# Altium footprint library PCB - DIODES - TO 277A.PcbLib: 3 footprints
Each footprint in its own frame and in the unit in brackets; x right, y up, seen from the top. Pads: shape width x height; smd on the part's side, far side on the other; paste and mask are expansions set on the pad; w line width, h text height; cw(c..) or ccw(c..) is an arc to the next point about the centre after c.
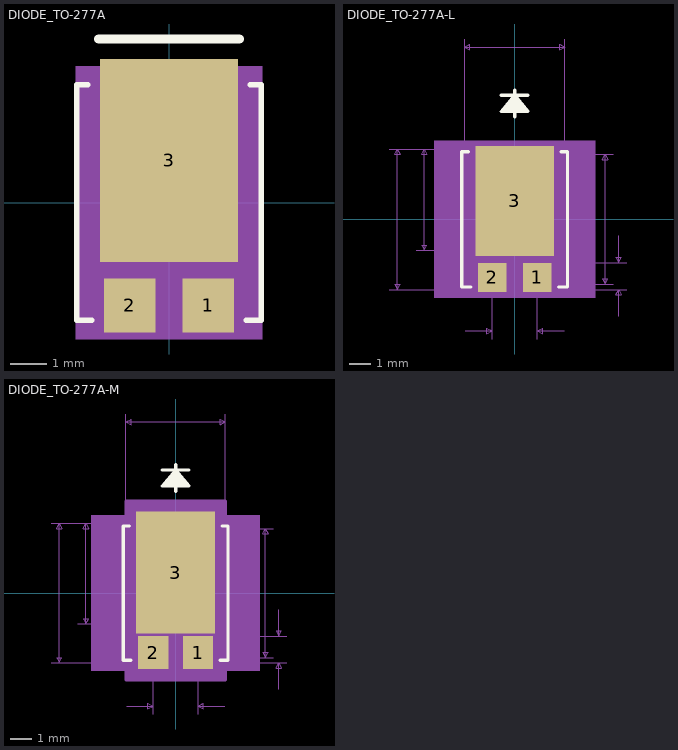
[diagram p0: the footprints below, top view; thin cyan lines are the x and y axes]

## DIODE_TO-277A [mil]
pads (3):
  rect 55x58 smd: 1(42,-110) 2(-42,-110)
  rect 148x217 smd: 3(0,45)
Top Overlay:
  lines w6: -87.1,126 -98.5,126 -98.5,-126 -82.6,-126 ; 82.6,-126 98.5,-126 98.5,126 87.1,126
  lines w10: -75,175 75,175
Mechanical 5:
  region: 100,-146 -100,-146 -100,146 100,146
Mechanical 13:
  lines w1: -93.5,-121 93.5,-121 93.5,121 -93.5,121 -93.5,-121
3D body "SS8P3L.STEP": height 41.34, standoff 0, extent -86.65,-122.87 94.45,133.03
3D body: height 10, standoff 0, extent 0,0 10,10

## DIODE_TO-277A-L [mil]
pads (3):
  rect 53x54 smd paste+0 mask+0: 1(42,-108) 2(-42,-108)
  rect 146x205 smd paste+0 mask+0: 3(0,34.5)
Top Overlay:
  lines w6: -86.1,126 -98.5,126 -98.5,-126 -81.6,-126 ; -25,231 25,231 ; -20,201 0,231 ; -15,201 0,231 ; -10,201 0,231 ; -5,201 0,231 ; 0,191 0,241 ; 5,201 0,231 ; 10,201 0,231 ; 15,201 0,231 ; 20,201 0,231 ; 81.6,-126 98.5,-126 98.5,126 86.1,126 ; 0,231 -25,201 25,201 0,231
Mechanical 5:
  region: 150,-146 -150,-146 -150,146 150,146
Mechanical 7:
  lines w1: -233.5,-131 42,-131 208.5,-131 ; -233.5,131 42,131 -183.5,131 ; -183.5,-58 42,-58 ; -93.5,-121 -93.5,336 ; -92,-208 -42,-208 ; -42,-223 -42,-108 ; 42,-223 42,-108 ; 42,-81 208.5,-81 ; 92,-208 42,-208 ; 93.5,121 183.5,121 ; 93.5,336 93.5,-121 183.5,-121 ; 193.5,-181 193.5,-131 ; 193.5,-31 193.5,-81 ; -218.5,-131 -213.5,-121 -223.5,-121 -218.5,-131 ; -218.5,-131 -218.5,131 ; -218.5,131 -213.5,121 -223.5,121 -218.5,131 ; -168.5,-58 -163.5,-48 -173.5,-48 -168.5,-58 ; -168.5,-58 -168.5,131 ; -168.5,131 -163.5,121 -173.5,121 -168.5,131 ; -93.5,321 -83.5,316 -83.5,326 -93.5,321 ; -93.5,321 93.5,321 ; -42,-208 -52,-213 -52,-203 -42,-208 ; 42,-208 52,-213 52,-203 42,-208 ; 93.5,321 83.5,316 83.5,326 93.5,321 ; 168.5,-121 173.5,-111 163.5,-111 168.5,-121 ; 168.5,-121 168.5,121 ; 168.5,121 173.5,111 163.5,111 168.5,121 ; 193.5,-131 198.5,-141 188.5,-141 193.5,-131 ; 193.5,-81 198.5,-71 188.5,-71 193.5,-81
  text "0.187in/4.75mm" at -87.5,341 h25
  text "0.242in/6.147mm" at 188.5,-12.5 h25
  text "0.084in/2.134mm" at -93.75,-253 h25
  text "0.05in/1.27mm" at 213.5,-118.5 h25
  text "0.262in/6.655mm" at -426,-12.5 h25
  text "Alt 2 Padstyle: OX90Y60D30P" at -337.5,-601 h50
  text "Alt 1 Padstyle: OX60Y90D30P" at -337.5,-541 h50
  text "Default Padstyle: RX54Y53D0T" at -350,-481 h50
Mechanical 13:
  lines w1: -25,231 25,231 ; -20,201 0,231 ; -15,201 0,231 ; -10,201 0,231 ; -5,201 0,231 ; 0,191 0,241 ; 5,201 0,231 ; 10,201 0,231 ; 15,201 0,231 ; 20,201 0,231 ; 0,231 -25,201 25,201 0,231 ; -93.5,-121 -93.5,121 93.5,121 93.5,-121 -93.5,-121
Mechanical 15:
  region: 93.5,-121 -93.5,-121 -93.5,121 93.5,121
  region: -73,-125 -97.5,-125 -97.5,125 -77,125 -77,141 77,141 77,125 97.5,125 97.5,-125 73,-125 73,-139 -73,-139
  lines w6: -97.5,-125 -73,-125 -73,-139 73,-139 73,-125 97.5,-125 97.5,125 77,125 77,141 -77,141 -77,125 -97.5,125 -97.5,-125
3D body: height 10, standoff 0, extent 0,0 10,10

## DIODE_TO-277A-M [mil]
pads (3):
  rect 57x62 smd paste+0 mask+0: 1(42,-112) 2(-42,-112)
  rect 148x229 smd paste+0 mask+0: 3(0,38.5)
Top Overlay:
  lines w6: -87.1,126 -98.5,126 -98.5,-126 -83.6,-126 ; -25,231 25,231 ; -20,201 0,231 ; -15,201 0,231 ; -10,201 0,231 ; -5,201 0,231 ; 0,191 0,241 ; 5,201 0,231 ; 10,201 0,231 ; 15,201 0,231 ; 20,201 0,231 ; 83.6,-126 98.5,-126 98.5,126 87.1,126 ; 0,231 -25,201 25,201 0,231
Mechanical 5:
  region: 158,-146 -158,-146 -158,146 158,146
Mechanical 7:
  lines w1: -233.5,-131 42,-131 208.5,-131 ; -233.5,131 42,131 -183.5,131 ; -183.5,-58 42,-58 ; -93.5,-121 -93.5,336 ; -92,-212 -42,-212 ; -42,-227 -42,-112 ; 42,-227 42,-112 ; 42,-81 208.5,-81 ; 92,-212 42,-212 ; 93.5,121 183.5,121 ; 93.5,336 93.5,-121 183.5,-121 ; 193.5,-181 193.5,-131 ; 193.5,-31 193.5,-81 ; -218.5,-131 -213.5,-121 -223.5,-121 -218.5,-131 ; -218.5,-131 -218.5,131 ; -218.5,131 -213.5,121 -223.5,121 -218.5,131 ; -168.5,-58 -163.5,-48 -173.5,-48 -168.5,-58 ; -168.5,-58 -168.5,131 ; -168.5,131 -163.5,121 -173.5,121 -168.5,131 ; -93.5,321 -83.5,316 -83.5,326 -93.5,321 ; -93.5,321 93.5,321 ; -42,-212 -52,-217 -52,-207 -42,-212 ; 42,-212 52,-217 52,-207 42,-212 ; 93.5,321 83.5,316 83.5,326 93.5,321 ; 168.5,-121 173.5,-111 163.5,-111 168.5,-121 ; 168.5,-121 168.5,121 ; 168.5,121 173.5,111 163.5,111 168.5,121 ; 193.5,-131 198.5,-141 188.5,-141 193.5,-131 ; 193.5,-81 198.5,-71 188.5,-71 193.5,-81
  text "0.187in/4.75mm" at -87.5,341 h25
  text "0.242in/6.147mm" at 188.5,-12.5 h25
  text "0.084in/2.134mm" at -93.75,-257 h25
  text "0.05in/1.27mm" at 213.5,-118.5 h25
  text "0.262in/6.655mm" at -426,-12.5 h25
  text "Alt 2 Padstyle: OX90Y60D30P" at -337.5,-601 h50
  text "Alt 1 Padstyle: OX60Y90D30P" at -337.5,-541 h50
  text "Default Padstyle: RX62Y57D0T" at -350,-481 h50
Mechanical 13:
  lines w1: -25,231 25,231 ; -20,201 0,231 ; -15,201 0,231 ; -10,201 0,231 ; -5,201 0,231 ; 0,191 0,241 ; 5,201 0,231 ; 10,201 0,231 ; 15,201 0,231 ; 20,201 0,231 ; 0,231 -25,201 25,201 0,231 ; -93.5,-121 -93.5,121 93.5,121 93.5,-121 -93.5,-121
Mechanical 15:
  region: 93.5,-121 -93.5,-121 -93.5,121 93.5,121
  region: -93,-141 -113.5,-141 -113.5,141 -93,141 -93,173 93,173 93,141 113.5,141 113.5,-141 93,-141 93,-163 -93,-163
  lines w6: -113.5,-141 -93,-141 -93,-163 93,-163 93,-141 113.5,-141 113.5,141 93,141 93,173 -93,173 -93,141 -113.5,141 -113.5,-141
3D body: height 10, standoff 0, extent 0,0 10,10